# EAGLE library part X2 (library Isostat)
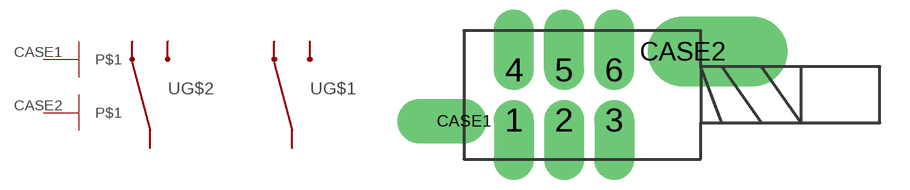
[diagram p0: symbol with the pads of MINI; footprint MINI]

Designator prefix -; gates G$1=X2 G$2=X2 CASE1=CASE CASE2=CASE

## X2  [MINI]
1  G$1:P$1
2  G$1:P$2
3  G$1:P$3
4  G$2:P$1
5  G$2:P$2
6  G$2:P$3
CASE1  CASE1:P$1
CASE2  CASE2:P$1

## Footprint MINI (pad centres in mm)
drill 0.7 pad 2.032 offset: 1 -2.54,-1.27; 2 0,-1.27; 3 2.54,-1.27; 4 -2.54,1.27; 5 0,1.27; 6 2.54,1.27
drill 1.5 pad 2.032 offset: CASE1 -5.08,-1.325
drill 1.5 pad 3.556 offset: CASE2 6,2.2